# Altium schematic symbol library Microcontroller circuit.SchLib: 20 symbols
Pins are listed as number, name and electrical type; pins without a type are passive.

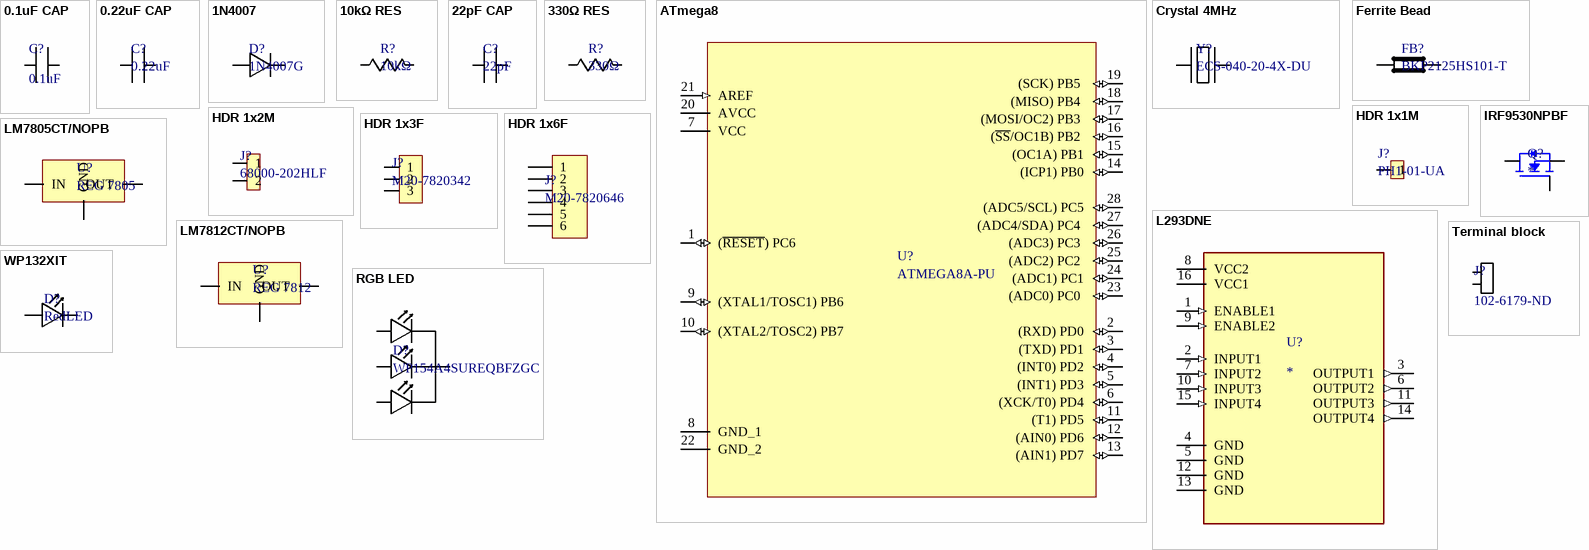
[diagram p0: symbols 0.1uF CAP to WP132XIT]

## 0.1uF CAP
designator C?, comment 0.1uF
CAP CER 0.1UF 50V X7R 0805; Manufacturer: TDK Corporation; MPN: C2012X7R1H104K085AA; SPN: 445-7534-1-ND; Supplier: DigiKey
footprint C0805 (0.1uF)
pins: 1, 2

## 0.22uF CAP
designator C?, comment 0.22uF
CAP CER 0.22UF 25V X7R 0805; MPN: CC0805KRX7R8BB224; Manufacturer: YAGEO; SPN: 311-1432-1-ND; Supplier: DigiKey
footprint C0805 (0.1uF)
pins: 1, 2

## 1N4007
designator D?, comment 1N4007G
DIODE GEN PURP 1A DO204AL; Manufacturer: Taiwan Semiconductor Corporation; SPN: 1801-1N4007GCT-ND; MPN: 1N4007G; Supplier: DigiKey
footprint 1N4007 (DIODE GEN PURP 1A DO204AL)
pins: 1 cathode, 2 Anode

## 10kΩ RES
designator R?, comment 10kΩ
RES 10K OHM 1% 1/4W 1206; MPN: RC1206FR-0710KL; Manufacturer: YAGEO; SPN: 311-10.0KFRCT-ND; Supplier: DigiKey
footprint R1206
pins: 1 *, 2 *

## 22pF CAP
designator C?, comment 22pF
CAP THIN FILM 22PF 50V 0805; MPN: 08055J220FBTTR; Manufacturer: KYOCERA AVX; SPN: 478-11911-1-ND; Supplier: DigiKey
footprint C0805 (0.1uF)
pins: 1, 2

## 330Ω RES
designator R?, comment 330Ω
RES 330 OHM 1% 1/8W 0805; MPN: RC0805FR-07330RL; Manufacturer: YAGEO; SPN: 311-330CRCT-ND; Supplier: DigiKey
footprint R0805
pins: 1 *, 2 *

## ATmega8
designator U?, comment ATMEGA8A-PU
IC MCU 8BIT 8KB FLASH 28DIP; Manufacturer: Microchip Technology; SPN: ATMEGA8A-PU-ND; MPN: ATMEGA8A-PU; Supplier: DigiKey; ComponentLink1Description: Datasheet; ComponentLink1URL: https://ww1.microchip.com/downloads/en/DeviceDoc/ATmega8A-Data-Sheet-DS40001974B.pdf
footprint ATmega8A (IC MCU 8BIT 8KB FLASH 28DIP)
pins: 1 (~{RESET}) PC6 (io), 2 (RXD) PD0 (io), 3 (TXD) PD1 (io), 4 (INT0) PD2 (io), 5 (INT1) PD3 (io), 6 (XCK/T0) PD4 (io), 7 VCC (power), 8 GND_1 (power), 9 (XTAL1/TOSC1) PB6 (io), 10 (XTAL2/TOSC2) PB7 (io), 11 (T1) PD5 (io), 12 (AIN0) PD6 (io), 13 (AIN1) PD7 (io), 14 (ICP1) PB0 (io), 15 (OC1A) PB1 (io), 16 (~{SS}/OC1B) PB2  (io), 17 (MOSI/OC2) PB3  (io), 18 (MISO) PB4  (io), 19 (SCK) PB5  (io), 20 AVCC (power), 21 AREF (in), 22 GND_2 (power), 23 (ADC0) PC0  (io), 24 (ADC1) PC1 (io), 25 (ADC2) PC2  (io), 26 (ADC3) PC3  (io), 27 (ADC4/SDA) PC4  (io), 28 (ADC5/SCL) PC5 (io)

## Crystal 4MHz
designator Y?, comment ECS-040-20-4X-DU
CRYSTAL 4.0000MHZ 20PF TH; Manufacturer: ECS Inc.; SPN: XC1920-ND; MPN: ECS-040-20-4X-DU; Supplier: DigiKey
footprint Crystal (CRYSTAL 4.0000MHZ 20PF TH)
pins: 1, 2

## Ferrite Bead
designator FB?, comment BKP2125HS101-T
FERRITE BEAD 100 OHM 0805 1LN; Manufacturer: Taiyo Yuden; SPN: 587-1929-1-ND; MPN: BKP2125HS101-T; Supplier: DigiKey
footprint FB0805
pins: 1, 2

## HDR 1x1M
designator J?, comment PH1-01-UA
CONN HEADER VERT 1POS 2.54MM; Manufacturer: Adam Tech; SPN: 2057-PH1-01-UA-ND; MPN: PH1-01-UA; Supplier: DigiKey
footprint HDR 1x1M
pins: 1

## HDR 1x2M
designator J?, comment 68000-202HLF
CONN HEADER VERT 2POS 2.54MM; Manufacturer: Amphenol ICC (FCI); SPN: 609-3502-ND; MPN: 68000-202HLF; Supplier: DigiKey
footprint HDR 1x2M (CONN HEADER VERT 2POS 2.54MM)
pins: 1, 2

## HDR 1x3F
designator J?, comment M20-7820342
CONN RCPT 3POS 0.1 GOLD PCB; Manufacturer: Harwin Inc.; SPN: 952-1783-ND; MPN: M20-7820342; Supplier: DigiKey
footprint HDR 1x3F
pins: 1, 2, 3

## HDR 1x6F
designator J?, comment M20-7820646
CONN RCPT 6POS 0.1 TIN PCB; Manufacturer: Harwin Inc.; SPN: 952-1809-ND; MPN: M20-7820646; Supplier: DigiKey
footprint HDR 1x6F (6 Position Receptacle Connector 0.100" (2.54mm) Through Hole Tin)
pins: 1, 2, 3, 4, 5, 6

## IRF9530NPBF
designator Q?
MOSFET P-CH 100V 14A TO220AB; MPN: IRF9530NPBF; Manufacturer: Infineon Technologies; SPN: IRF9530NPBF-ND; Supplier: DigiKey
footprint IRF9530NPBF (MOSFET P-CH 100V 14A TO220AB)
pins: 1 G, 2 D, 3 S

## L293DNE
designator U?
IC MTR DRV BIPOLAR 4.5-36V 16DIP; MPN: L293DNE; Manufacturer: Texas Instruments; SPN: 296-9518-5-ND; Supplier: DigiKey
footprint L293D
pins: 1 ENABLE1 (in), 2 INPUT1 (in), 3 OUTPUT1 (out), 4 GND (power), 5 GND (power), 6 OUTPUT2 (out), 7 INPUT2 (in), 8 VCC2 (power), 9 ENABLE2 (in), 10 INPUT3 (in), 11 OUTPUT3 (out), 12 GND (power), 13 GND (power), 14 OUTPUT4 (out), 15 INPUT4 (in), 16 VCC1 (power)

## LM7805CT/NOPB
designator U?, comment REG 7805
IC REG LINEAR 5V 1A TO220-3; MPN: LM7805CT/NOPB; Manufacturer: Texas Instruments; SPN: 296-47192-ND; Supplier: DigiKey; ComponentLink1Description: Datasheet; ComponentLink1URL: https://www.ti.com/general/docs/suppproductinfo.tsp?distId=10&gotoUrl=https%3A%2F%2Fwww.ti.com%2Flit%2Fgpn%2Flm340
footprint REG 78xx
pins: 1 IN, 2 GND, 3 OUT

## LM7812CT/NOPB
designator U?, comment REG 7812
IC REG LINEAR 12V 1A TO220-3; MPN: LM7812CT/NOPB; Manufacturer: Texas Instruments; SPN: 296-50628-ND; Supplier: DigiKey
footprint REG 78xx
pins: 1 IN, 2 GND, 3 OUT

## RGB LED
designator D?, comment WP154A4SUREQBFZGC
LED RGB CLEAR T-1 3/4 T/H; Manufacturer: Kingbright; SPN: 754-1615-ND; MPN: WP154A4SUREQBFZGC; Supplier: DigiKey
footprint RGB LED
pins: 1 Red, 2 Common Anode, 3 Blue, 4 Green

## Terminal block
designator J?, comment 102-6179-ND
TERMINAL BLOCK, SCREW TYPE, 5.08; MPN: TB004-508-02BE; Manufacturer: CUI Devices; Supplier: DigiKey; Parameter 1: 102-6179-ND
footprint Terminal block (102-6179-ND)
pins: 1 *, 2 *

## WP132XIT
designator D?, comment RedLED
LED RED CLEAR T-1 T/H; MPN: WP132XIT; Manufacturer: Kingbright; SPN: 754-1710-ND; Supplier: DigiKey
footprint THT_LED (LED RED CLEAR T-1 T/H)
pins: 1 cathode, 2 Anode